# EAGLE library part ESP32 (library ESP32)
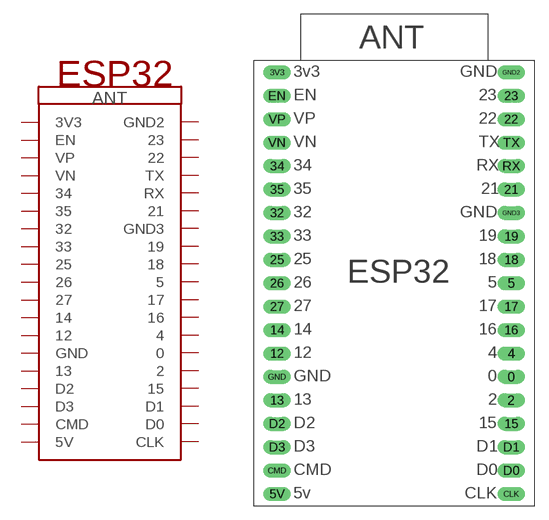
[diagram p0: symbol with the pads of ESP32; footprint ESP32]

Designator prefix -

## ESP32  [ESP32]
0  0
2  2
3V3  3V3
4  4
5  5
5V  5V
12  12
13  13
14  14
15  15
16  16
17  17
18  18
19  19
21  21
22  22
23  23
25  25
26  26
27  27
32  32
33  33
34  34
35  35
CLK  CLK
CMD  CMD
D0  D0
D1  D1
D2  D2
D3  D3
EN  EN
GND  GND
GND2  GND2
GND3  GND3
RX  RX
TX  TX
VN  VN
VP  VP

## Footprint ESP32 (pad centres in mm)
drill 1 long: 0 25.4,-33.02; 2 25.4,-35.56; 3V3 0,0; 4 25.4,-30.48; 5 25.4,-22.86; 5V 0,-45.72; 12 0,-30.48; 13 0,-35.56; 14 0,-27.94; 15 25.4,-38.1; 16 25.4,-27.94; 17 25.4,-25.4; 18 25.4,-20.32; 19 25.4,-17.78; 21 25.4,-12.7; 22 25.4,-5.08; 23 25.4,-2.54; 25 0,-20.32; 26 0,-22.86; 27 0,-25.4; 32 0,-15.24; 33 0,-17.78; 34 0,-10.16; 35 0,-12.7; CLK 25.4,-45.72; CMD 0,-43.18; D0 25.4,-43.18; D1 25.4,-40.64; D2 0,-38.1; D3 0,-40.64; EN 0,-2.54; GND 0,-33.02; GND2 25.4,0; GND3 25.4,-15.24; RX 25.4,-10.16; TX 25.4,-7.62; VN 0,-7.62; VP 0,-5.08